# Altium footprint library MPP_DRIVER.PcbLib: 1 footprints
Each footprint in its own frame and in the unit in brackets; x right, y up, seen from the top. Pads: shape width x height; smd on the part's side, far side on the other; paste and mask are expansions set on the pad; w line width, h text height; cw(c..) or ccw(c..) is an arc to the next point about the centre after c.
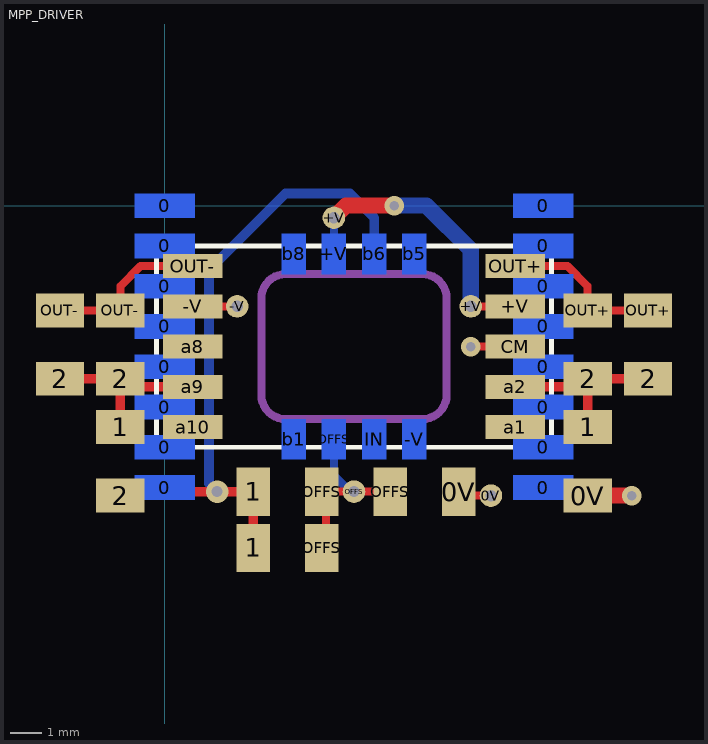
[diagram p0: the footprint, top view; thin cyan lines are the x and y axes]

## MPP_DRIVER [mil]
pads (57):
  rect 74x30 smd far side: 0(0,-350) 0(0,-300) 0(0,-250) 0(0,-200) 0(0,-150) 0(0,-100) 0(0,-50) 0(0,0) 0(470,-350) 0(470,-300) 0(470,-250) 0(470,-200) 0(470,-150) 0(470,-100) 0(470,-50) 0(470,0)
  rect 42x60 smd: 0V(365,-355) 1(110,-425) 1(110,-355) OFFS(195,-425) OFFS(195,-355) OFFS(280,-355)
  round 28 hole 14: 0V(405,-360) +V(210,-15) +V(380,-125) -V(90,-125) OFFS(235,-355)
  rect 60x42 smd: 0V(525,-360) 1(-55,-275) 1(525,-275) 2(-130,-215) 2(-55,-360) 2(-55,-215) 2(525,-215) 2(600,-215) OUT+(525,-130) OUT+(600,-130) OUT-(-130,-130) OUT-(-55,-130)
  rect 30x50 smd far side: +V(210,-60) -V(310,-290) b1(160,-290) b5(310,-60) b6(260,-60) b8(160,-60) IN(260,-290) OFFS(210,-290)
  rect 74x30 smd: +V(435,-125) -V(35,-125) a1(435,-275) a2(435,-225) a8(35,-175) a9(35,-225) a10(35,-275) CM(435,-175) OUT+(435,-75) OUT-(35,-75)
via 580,-360 diameter 24 hole 12
via 65,-355 diameter 28 hole 14
via 380,-175 diameter 24 hole 12
via 285,0 diameter 24 hole 12
Top Layer:
  lines w10: -130,-130 -55,-130 -55,-100 -30,-75 35,-75 ; 35,-125 90,-125 ; 200,-425 200,-365 190,-355 285,-355 ; 365,-360 405,-360 ; 380,-175 435,-175 ; 380,-125 435,-125 ; 435,-75 500,-75 525,-100 525,-130 600,-130
  lines w12: -130,-215 -55,-215 -55,-275 ; -60,-355 80,-355 120,-355 ; -55,-225 35,-225 ; 110,-425 110,-355 ; 435,-225 525,-225 ; 525,-275 525,-215 600,-215
  lines w20: 210,-15 225,0 285,0 ; 525,-360 580,-360
Bottom Layer:
  lines w10: 210,-290 210,-335 235,-360 ; 210,-55 210,-15
  lines w12: 65,-355 55,-345 55,-150 55,-80 125,-10 150,15 230,15 260,-15 260,-60
  lines w20: 285,0 325,0 380,-55 380,-125
Top Overlay:
  lines w6: -10,-300 -10,-50 480,-50 480,-300 -10,-300
Bottom Overlay:
  lines w6: -45,-375 -45,25 515,25 515,-375 -45,-375
Mechanical 1:
  lines w10: 120,-235 ccw(c150,-235) 150,-265 320,-265 ccw(c320,-235) 350,-235 350,-115 ccw(c320,-115) 320,-85 150,-85 ccw(c150,-115) 120,-115 120,-235